# Altium schematic symbol library Teensy4.1.SchLib: 1 symbol
Pins are listed as number, name and electrical type; pins without a type are passive.

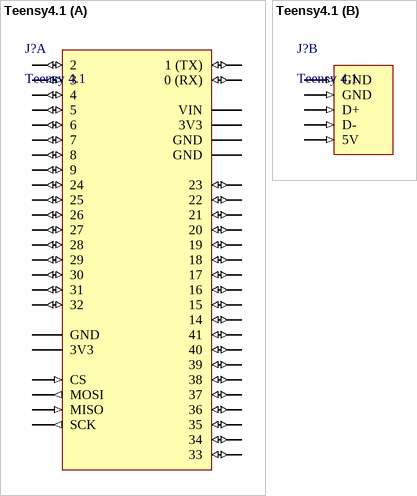
[diagram p0: symbol Teensy4.1]

## Teensy4.1
designator J?, comment Teensy 4.1
footprint Teensy4.1
part A pins: 1 GND (power), 2 0 (RX) (io), 3 1 (TX) (io), 4 2 (io), 5 3 (io), 6 4 (io), 7 5 (io), 8 6 (io), 9 7 (io), 10 8 (io), 11 9 (io), 12 CS (in), 13 MOSI (out), 14 MISO (in), 15 3V3 (power), 16 24 (io), 17 25 (io), 18 26 (io), 19 27 (io), 20 28 (io), 21 29 (io), 22 30 (io), 23 31 (io), 24 32 (io), 25 33 (io), 26 34 (io), 27 35 (io), 28 36 (io), 29 37 (io), 30 38 (io), 31 39 (io), 32 40 (io), 33 41 (io), 34 GND (power), 35 SCK (out), 36 14 (io), 37 15 (io), 38 16 (io), 39 17 (io), 40 18 (io), 41 19 (io), 42 20 (io), 43 21 (io), 44 22 (io), 45 23 (io), 46 3V3 (power), 47 GND (power), 48 VIN (power)
part B pins: 49 GND (in), 50 GND (in), 51 D+ (in), 52 D- (in), 53 5V (in)